# Altium footprint library pcblib.PcbLib: 43 footprints (part 3 of 3)
Each footprint in its own frame and in the unit in brackets; x right, y up, seen from the top. Pads: shape width x height; smd on the part's side, far side on the other; paste and mask are expansions set on the pad; w line width, h text height; cw(c..) or ccw(c..) is an arc to the next point about the centre after c.
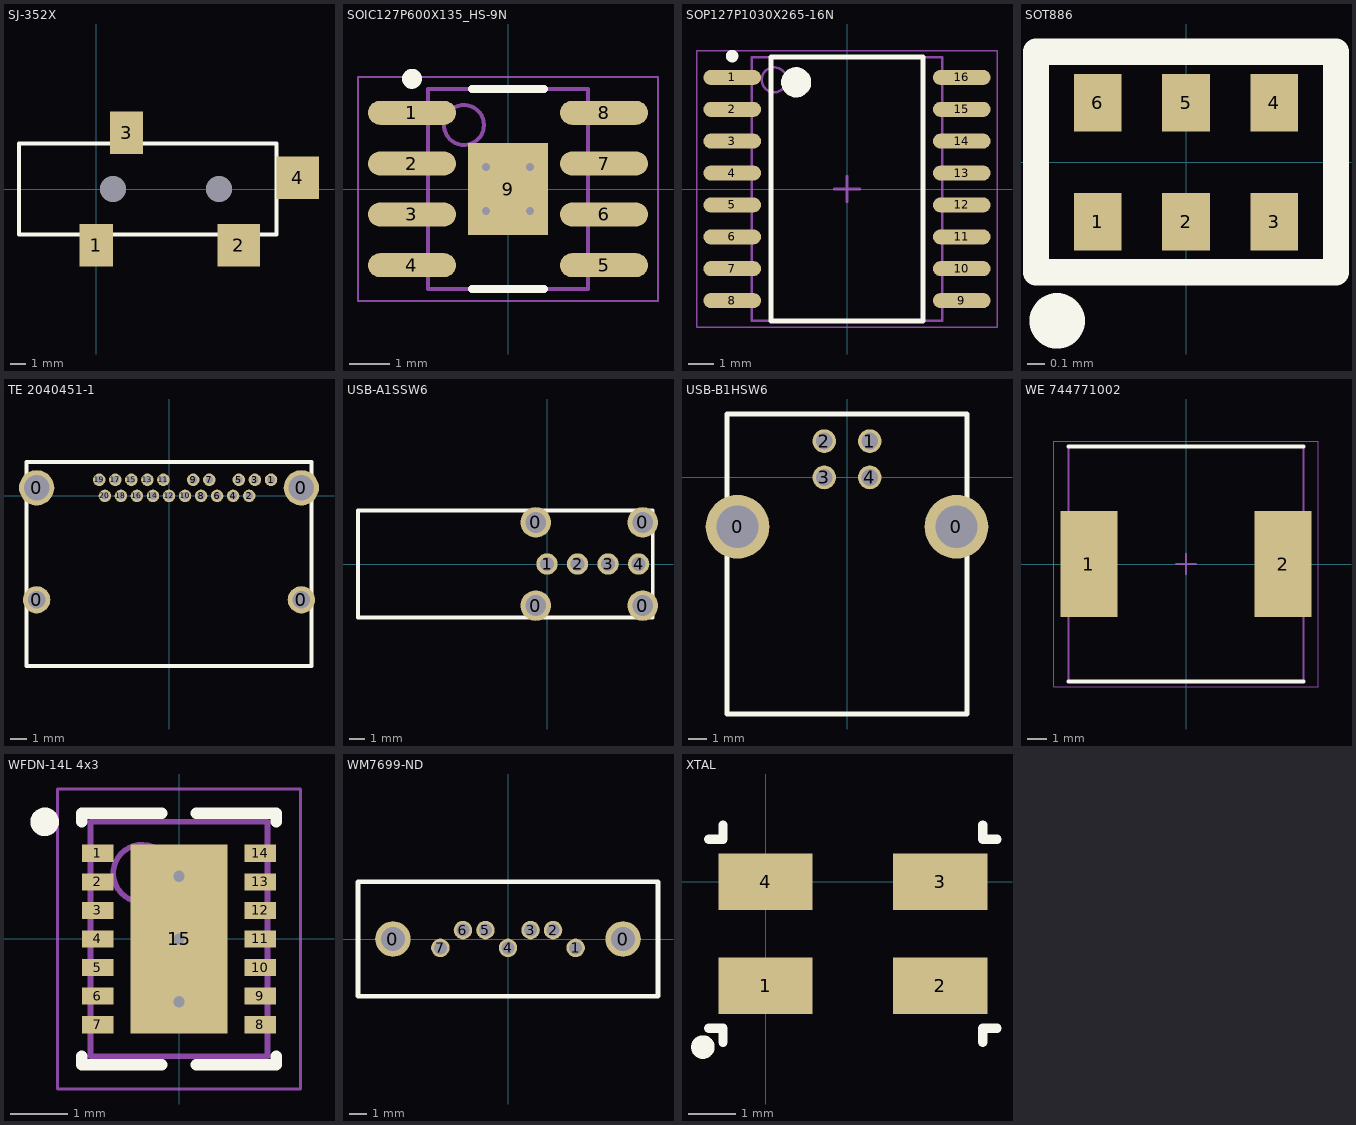
[diagram p2: the footprints below, top view; thin cyan lines are the x and y axes]

## SJ-352X [mm]
pads (6):
  rect 2.2x2.8 smd: 1(0,-3.7) 3(2,3.7)
  rect 2.8x2.8 smd: 2(9.4,-3.7) 4(13.3,0.75)
  round 1.7 hole 1.7 paste+910.217 mask+0: ""(1.1,0) ""(8.1,0)
Top Overlay:
  lines w0.254: -5.1,-3 11.9,-3 11.9,3 -5.1,3 -5.1,-3

## SOIC127P600X135_HS-9N [mm] "SOIC, 8-Leads, Body 4.90x3.91mm, Pitch 1.27mm, Thermal Pad 2.30.2x2.00.2mm, IPC Medium Density"
height 1.35
pads (9):
  oval 2.2x0.6 smd: 1(-2.4,1.905) 2(-2.4,0.635) 3(-2.4,-0.635) 4(-2.4,-1.905) 5(2.4,-1.905) 6(2.4,-0.635) 7(2.4,0.635) 8(2.4,1.905)
  rect 2x2.3 smd paste-0.4 mask+0.051: 9(0,0)
via -0.55,0.55 diameter 0.5 hole 0.2
via 0.55,0.55 diameter 0.5 hole 0.2
via -0.55,-0.55 diameter 0.5 hole 0.2
via 0.55,-0.55 diameter 0.5 hole 0.2
Top Overlay:
  circle w0.25: c-2.4,2.755 r0.125
  lines w0.2: -0.9,-2.5 0.9,-2.5 ; -0.9,2.5 0.9,2.5
Mechanical 13:
  circle w0.1: c-1.1,1.6 r0.5
  lines w0.1: -2,-2.5 -2,2.5 2,2.5 2,-2.5 -2,-2.5
Mechanical 15:
  lines w0.05: -3.75,-2.8 -3.75,2.8 3.75,2.8 3.75,-2.8 -3.75,-2.8
  lines w0.1: -0.5,0 0.5,0 ; 0,-0.5 0,0.5
3D body: height 1.35, standoff 0, extent -2,-2.5 2,2.5

## SOP127P1030X265-16N [mm] "SOP, 16-Leads, Body 10.30x7.50mm, Pitch 1.27mm, IPC Medium Density"
height 2.65
pads (16):
  oval 2.3x0.6 smd: 1(-4.575,4.445) 2(-4.575,3.175) 3(-4.575,1.905) 4(-4.575,0.635) 5(-4.575,-0.635) 6(-4.575,-1.905) 7(-4.575,-3.175) 8(-4.575,-4.445) 9(4.575,-4.445) 10(4.575,-3.175) 11(4.575,-1.905) 12(4.575,-0.635) 13(4.575,0.635) 14(4.575,1.905) 15(4.575,3.175) 16(4.575,4.445)
Top Overlay:
  circle w0.25: c-4.575,5.295 r0.125
  circle w0.6: c-2.025,4.25 r0.3
  lines w0.2: -3.025,-5.25 -3.025,5.25 3.025,5.25 3.025,-5.25 -3.025,-5.25
Mechanical 13:
  circle w0.1: c-2.9,4.35 r0.5
  lines w0.1: -3.8,-5.25 -3.8,5.25 3.8,5.25 3.8,-5.25 -3.8,-5.25
Mechanical 15:
  lines w0.05: -5.975,-5.5 -5.975,5.5 5.975,5.5 5.975,-5.5 -5.975,-5.5
  lines w0.1: -0.5,0 0.5,0 ; 0,-0.5 0,0.5
3D body: height 2.65, standoff 0.1, extent -3.8,-5.25 3.8,5.25

## SOT886 [mm]
pads (6):
  rect 0.27x0.325 smd paste+0 mask+0.05: 1(-0.5,-0.337) 2(0,-0.337) 3(0.5,-0.337) 4(0.5,0.337) 5(0,0.337) 6(-0.5,0.337)
Top Overlay:
  circle w0.254: c-0.73,-0.9 r0.03
  lines w0.15: -0.85,-0.625 0.85,-0.625 0.85,0.625 -0.85,0.625 -0.85,-0.625

## TE 2040451-1 [mm]
pads (24):
  rrect100% 1.7x1.7 hole 1.1: 0(-8.25,-6.48) 0(8.25,-6.48)
  rrect100% 2.2x2.2 hole 1.6: 0(-8.25,0.5) 0(8.25,0.5)
  round 0.78 hole 0.48 mask+0.05: 1(6.36,1) 2(5,0) 3(5.35,1) 4(4,0) 5(4.35,1) 6(3,0) 7(2.51,1) 8(2,0) 9(1.51,1) 10(1,0) 11(-0.35,1) 12(0,0) 13(-1.35,1) 14(-1,0) 15(-2.35,1) 16(-2,0) 17(-3.35,1) 18(-3,0) 19(-4.35,1) 20(-4,0)
Top Overlay:
  lines w0.254: -8.895,-10.6 8.895,-10.6 8.895,2.1 -8.895,2.1 -8.895,-10.6

## USB-A1SSW6 [mm]
pads (8):
  round 2 hole 1.35: 0(-0.73,-2.72) 0(-0.73,2.72) 0(6.27,-2.72) 0(6.27,2.72)
  round 1.4 hole 0.92: 1(0,0) 2(2,0) 3(4,0) 4(6,0)
Top Overlay:
  lines w0.254: -12.38,-3.51 6.927,-3.51 6.927,3.51 -12.38,3.51 -12.38,-3.51

## USB-B1HSW6 [mm]
pads (6):
  round 3.5 hole 2.33: 0(-6.02,-2.71) 0(6.02,-2.71)
  round 1.3 hole 0.92: 1(1.25,2) 2(-1.25,2) 3(-1.25,0) 4(1.25,0)
Top Overlay:
  lines w0.254: -6.6,-13.01 -6.6,3.49 6.6,3.49 6.6,-13.01 -6.6,-13.01

## WE 744771002 [mm] "Chip Inductor, 2-Leads, Body 12.00x12.00mm, IPC Medium Density"
height 6
pads (2):
  rect 2.9x5.4 smd: 1(-4.95,0) 2(4.95,0)
Top Overlay:
  lines w0.2: -6,-6 6,-6 ; -6,6 6,6
Mechanical 13:
  lines w0.1: -6,-6 6,-6 6,6 -6,6 -6,-6
Mechanical 15:
  lines w0.05: -6.75,-6.25 6.75,-6.25 6.75,6.25 -6.75,6.25 -6.75,-6.25
  lines w0.1: -0.5,0 0.5,0 ; 0,-0.5 0,0.5
3D body: height 6, standoff 0, extent 5.8,-6 6,6
3D body: height 6, standoff 0, extent -6,-6 -5.8,6
3D body: height 6, standoff 0, extent -5.8,-6 5.8,6

## WFDN-14L 4x3 [mm] "QFN, 14-Leads, Body 4.00x3.00mm, Pitch 0.50mm, Thermal Pad 3.30x1.70mm, IPC Medium Density"
height 0.8
pads (15):
  rect 0.55x0.3 smd mask+0.025: 1(-1.425,1.5) 2(-1.425,1) 3(-1.425,0.5) 4(-1.425,0) 5(-1.425,-0.5) 6(-1.425,-1) 7(-1.425,-1.5) 8(1.425,-1.5) 9(1.425,-1) 10(1.425,-0.5) 11(1.425,0) 12(1.425,0.5) 13(1.425,1) 14(1.425,1.5)
  rect 1.7x3.3 smd paste-0.32 mask+0.025: 15(0,0)
via 0,1.1 diameter 0.5 hole 0.2
via 0,0 diameter 0.5 hole 0.2
via 0,-1.1 diameter 0.5 hole 0.2
Top Overlay:
  circle w0.25: c-2.35,2.05 r0.125
  lines w0.2: -1.7,-2.05 -1.7,-2.2 -0.3,-2.2 ; -1.7,2.05 -1.7,2.2 -0.3,2.2 ; 0.3,-2.2 1.7,-2.2 1.7,-2.05 ; 0.3,2.2 1.7,2.2 1.7,2.05
Mechanical 13:
  circle w0.1: c-0.65,1.15 r0.5
  lines w0.1: -1.55,-2.05 -1.55,2.05 1.55,2.05 1.55,-2.05 -1.55,-2.05
Mechanical 15:
  lines w0.05: -2.125,-2.625 -2.125,2.625 2.125,2.625 2.125,-2.625 -2.125,-2.625
  lines w0.1: -0.5,0 0.5,0 ; 0,-0.5 0,0.5
3D body: height 0.8, standoff 0, extent -1.55,-2.05 1.55,2.05

## WM7699-ND [mm]
pads (9):
  round 2 hole 1.35: 0(-6.48,0) 0(6.48,0)
  round 1.04 hole 0.74 mask+0.051: 1(3.81,-0.5) 2(2.54,0.5) 3(1.27,0.5) 4(0,-0.5) 5(-1.27,0.5) 6(-2.54,0.5) 7(-3.81,-0.5)
Top Overlay:
  lines w0.254: -8.45,-3.225 8.45,-3.225 8.45,3.225 -8.45,3.225 -8.45,-3.225

## XTAL [mm]
pads (4):
  rect 2x1.2 smd: 1(0,-2.2) 2(3.7,-2.2) 3(3.7,0) 4(0,0)
Top Overlay:
  circle w0.25: c-1.325,-3.5 r0.125
  lines w0.2: -1.2,-3.1 -0.9,-3.1 -0.9,-3.4 ; -1.2,0.9 -0.9,0.9 -0.9,1.2 ; 4.6,-3.4 4.6,-3.1 4.9,-3.1 ; 4.6,1.2 4.6,0.9 4.9,0.9